# Altium footprint library transistor.PCBLIB: 58 footprints (part 2 of 4)
Each footprint in its own frame and in the unit in brackets; x right, y up, seen from the top. Pads: shape width x height; smd on the part's side, far side on the other; paste and mask are expansions set on the pad; w line width, h text height; cw(c..) or ccw(c..) is an arc to the next point about the centre after c.
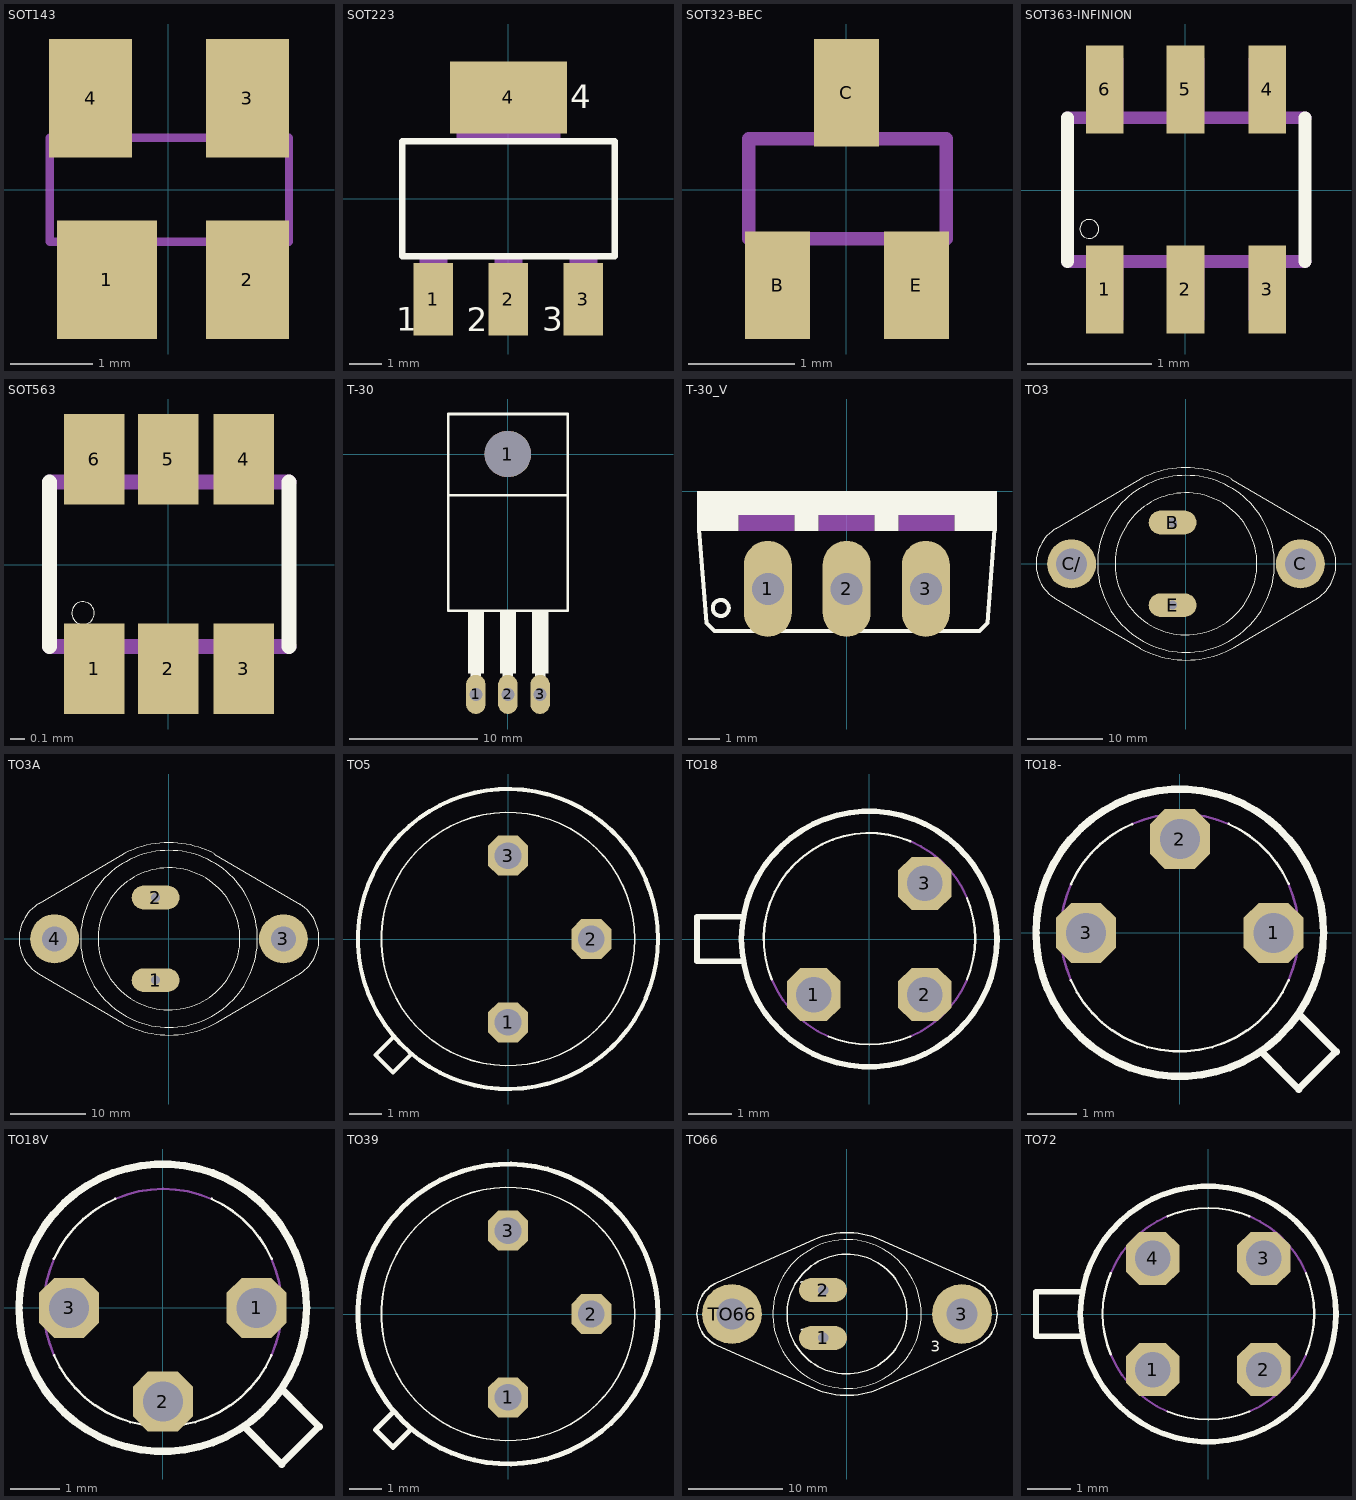
[diagram p1: the footprints below, top view; thin cyan lines are the x and y axes]

## SOT143 [mil]
pads (4):
  rect 48x57 smd: 1(-29.53,-43.31)
  rect 40x57 smd: 2(38,-43.31) 3(38,44) 4(-37.4,44)
Mechanical 16:
  rectangle: 29,-52 47,-25
  rectangle: 28,25 46,52
  rectangle: -45,25 -27,52
  rectangle: -47,-52 -12,-25
  lines w4: -57.01,-25 58,-25 58,25 -57.01,25 -57.01,-25

## SOT223 [mil]
pads (4):
  rect 48x88 smd: 1(-91,-122) 2(0,-122) 3(91,-122)
  rect 142x87 smd: 4(0,123)
Top Overlay:
  lines w8: -129,-70 129,-70 129,70 -129,70 -129,-70
  text "3" at 41,-170 h49.6
  text "4" at 75,100 h49.6
  text "1" at -135.93,-170 h49.6
  text "2" at -50.81,-170.37 h49.6
Mechanical 16:
  rectangle: -63,71 63,144
  rectangle: -17,-144 17,-71
  rectangle: -108,-144 -74,-71
  rectangle: 74,-144 108,-71
  rectangle: -63,71 63,144
  rectangle: -17,-144 17,-71
  rectangle: -108,-144 -74,-71
  rectangle: 74,-144 108,-71

## SOT323-BEC [mil]
pads (3):
  rect 24x40 smd: B(-25.59,-35.43) C(0,36) E(26,-35.43)
Mechanical 16:
  rectangle: -31.5,-43.31 -19.68,-19.68
  rectangle: 20,-43.31 32,-19.68
  rectangle: -5.91,20 6,44
  lines w5: -36.31,-18.13 37,-18.13 37,19 -36.31,19 -36.31,-18.13

## SOT363-INFINION [mil]
pads (6):
  rect 12x28 smd: 1(-25.59,-31.5) 2(0,-31.5) 3(26,-31.5) 4(26,32) 5(0,32) 6(-25.59,32)
Top Overlay:
  circle w0: c-30.51,-12.3 r3
  lines w4: -37.4,-22.64 -37.4,23 ; 38,-22.64 38,23
Top Paste:
  rectangle: -30.51,-44.29 -20.67,-18.7
  rectangle: -4.92,-44.29 5,-18.7
  rectangle: 21,-44.29 31,-18.7
  region: 31,45 21,45 21,19 31,19
  region: 5,45 -4.92,45 -4.92,19 5,19
  region: -20.67,45 -30.51,45 -30.51,19 -20.67,19
Top Solder:
  rectangle: -32.97,-47.24 -18.21,-16.24
  rectangle: -7.38,-47.24 8,-16.24
  rectangle: 19,-47.24 33,-16.24
  region: 33,48 19,48 19,17 33,17
  region: 8,48 -7.38,48 -7.38,17 8,17
  region: -18.21,48 -32.97,48 -32.97,17 -18.21,17
Mechanical 16:
  region: 6,-21.65 -5.91,-21.65 -5.91,-41.34 6,-41.34
  rectangle: -5.91,22 6,42
  rectangle: -31.5,22 -19.68,42
  rectangle: 20,22 32,42
  region: -19.69,-21.65 -31.5,-21.65 -31.5,-41.34 -19.69,-41.34
  region: 32,-21.65 20,-21.65 20,-41.34 32,-41.34
  lines w4: -37.4,-22.64 38,-22.64 ; -37.4,23 38,23

## SOT563 [mil]
pads (6):
  rect 16x24 smd: 1(-19.68,-27.56) 2(0,-27.56) 3(20,-27.56) 4(20,28) 5(0,28) 6(-19.68,28)
Top Overlay:
  circle w0: c-22.64,-12.8 r3
  lines w4: -31.5,-21.65 -31.5,22 ; 32,-21.65 32,22
Mechanical 16:
  region: -13.78,-21.65 -25.59,-21.65 -25.59,-33.46 -13.78,-33.46
  region: 6,-21.65 -5.91,-21.65 -5.91,-33.46 6,-33.46
  region: 26,-21.65 14,-21.65 14,-33.46 26,-33.46
  rectangle: 14,22 26,34
  rectangle: -5.91,22 6,34
  rectangle: -25.59,22 -13.78,34
  lines w4: -31.5,-21.65 32,-21.65 ; -31.5,22 32,22

## T-30 [mil]
pads (4):
  oval 60x120 hole 40: 1(-98.43,-737.6) 2(0,-737.6) 3(99,-737.6)
  round 142 hole 142: 1(0,0)
Top Overlay:
  rectangle: -123.03,-673.23 -73.82,-483.27
  rectangle: -24.61,-673.23 25,-483.27
  rectangle: 74,-673.23 124,-483.27
  lines w8: -183.07,-125.98 -183.07,-480.31 184,-480.31 184,-125.98 ; -183.07,-125.98 -183.07,123 184,123 184,-125.98 ; -183.07,-125.98 184,-125.98
  lines w32: -98.43,-737.4 -98.43,-665.55 ; 0,-737.4 0,-665.55 ; 99,-737.4 99,-665.55

## T-30_V [mil]
pads (3):
  oval 60x120 hole 40: 1(-98.43,-122.05) 2(0,-122.05) 3(99,-122.05)
Top Overlay:
  circle w5: c-157.31,-146 r10
  rectangle: -187.01,-30 188,0
  rectangle: -187.01,-50 -135,-30
  rectangle: -65,-50 -35,-30
  rectangle: 35,-50 65,-30
  rectangle: 135,-50 188,-30
  lines w5: -184.25,-47.95 -175.31,-164.92 -165.31,-174.92 166,-174.92 176,-164.92 185,-47.95
Mechanical 16:
  rectangle: -135,-50 -65,-30
  rectangle: -35,-50 35,-30
  rectangle: 65,-50 135,-30

## TO3 [mil]
pads (4):
  oval 248x124 hole 47: B(-70,215) E(-70,-215)
  round 255 hole 162: C(595,0) C/(-595,0)
Top Overlay:
  circle w6: c0,0 r369
  circle w2: c0,0 r460
  lines w6: -680,180 -250,433 ; -679,-181 -234,-442 ; -675.41,-183.35 cw(c-567,0) -780,0 cw(c-566.81,0.11) -672.94,185 ; -250.86,433 cw(c-0.9,0.24) 0,500 cw(c2,-1) 236,442 ; -235.3,-441.18 ccw(c0,0) 0,-500 ccw(c0.07,0.26) 251,-432.52 ; 235,441 684,178 ; 251,-433 684,-178 ; 683,-178.94 ccw(c567.23,-0.42) 780,0 ccw(c567.17,0.45) 683,179
Mechanical 16:
  circle w6: c595,0 r85
  circle w6: c-595,0 r85
  text "C" at 600,-195 h77.5
  text "E" at -150,-245 h77.5
  text "B" at -150,180 h77.5

## TO3A [mil]
pads (4):
  oval 248x124 hole 47: 1(-70,-215) 2(-70,215)
  round 255 hole 130: 3(595,0) 4(-595,0)
Top Overlay:
  circle w5: c0,0 r369
  circle w2: c0,0 r460
  lines w5: -680,180 -250,433 ; -679,-181 -234,-442 ; -675.41,-183.35 cw(c-567,0) -780,0 cw(c-566.81,0.11) -672.94,185 ; -250.86,433 cw(c-0.9,0.24) 0,500 cw(c2,-1) 236,442 ; -235.3,-441.18 ccw(c0,0) 0,-500 ccw(c0.07,0.26) 251,-432.52 ; 235,441 684,178 ; 251,-433 684,-178 ; 683,-178.94 ccw(c567.23,-0.42) 780,0 ccw(c567.17,0.45) 683,179
Mechanical 16:
  circle w5: c595,0 r85
  circle w5: c-595,0 r85
  text "3" at 600,-195 h77.5
  text "2" at -150,180 h77.5
  text "1" at -150,-245 h77.5
  text "4" at -550,-195 h77.5

## TO5 [mil]
pads (3):
  oct 48x48 hole 32: 1(0,-100) 2(100,0) 3(0,100)
Top Overlay:
  circle w5: c0,0 r180
  circle w2: c0,0 r152
  lines w5: -138,-118 -159,-139 -138,-160 -117,-139

## TO18 [mil]
pads (3):
  oct 48x48 hole 32: 1(-50,-50) 2(50,-50) 3(50,50)
Top Overlay:
  circle w5: c0,0 r115
  lines w2: -87.68,-36.57 cw(c0.28,0.07) 37,88 ; -36.57,-87.68 ccw(c0.21,0.51) 37,-87.68 ; 88,-36.57 ccw(c-0.19,0.21) 88,37
  lines w5: -113.25,-20 -155,-20 -155,20 -113.25,20
Mechanical 16:
  lines w2: -87.68,-36.57 ccw(c0,0) -36.57,-87.68 ; 37,-87.68 ccw(c0.38,-0.13) 88,-36.57 ; 37,88 cw(c0.51,0.51) 88,37
  text "1" at -75,-50 h77.5
  text "2" at 25,-50 h77.5
  text "3" at 0,25 h77.5

## TO18- [mil]
pads (3):
  oct 48x48 hole 32: 1(75,0) 2(0,75) 3(-75,0)
Top Overlay:
  circle w6: c0,0 r115
  lines w2: -87,-38.16 ccw(c0,0) 87,-38.16 ; -87,39 cw(c-1.08,0.42) -38.16,87 ; 39,87 cw(c1.5,1.5) 87,39
  lines w6: 65,-94.92 95,-125 125,-95 95,-64.92
Mechanical 16:
  lines w2: -87,-38.16 cw(c0.96,0.42) -87,39 ; -38.16,87 cw(c0.42,-0.96) 39,87 ; 87,-38.16 ccw(c-0.96,0.42) 87,39
  text "1" at 40,-45 h77.5
  text "2" at -20,25 h77.5
  text "3" at -75,-50 h77.5

## TO18V [mil]
pads (3):
  oct 48x48 hole 32: 1(75,0) 2(0,-75) 3(-75,0)
Top Overlay:
  circle w6: c0,0 r115
  lines w2: -87,-38.16 ccw(c0,0) 87,-38.16 ; -87,39 cw(c-1.07,0.42) -38.16,87 ; 39,87 cw(c1.49,1.49) 87,39
  lines w6: 65,-94.92 95,-125 125,-95 95,-64.92
Mechanical 16:
  lines w2: -87,-38.16 cw(c0.96,0.42) -87,39 ; -38.16,87 cw(c0.42,-0.96) 39,87 ; 87,-38.16 ccw(c-0.96,0.42) 87,39
  text "1" at 40,30 h77.5
  text "2" at -20,-50 h77.5
  text "3" at -75,25 h77.5

## TO39 [mil]
pads (3):
  oct 48x48 hole 32: 1(0,-100) 2(100,0) 3(0,100)
Top Overlay:
  circle w6: c0,0 r180
  circle w2: c0,0 r152
  lines w6: -138,-118 -159,-139 -138,-160 -117,-139

## TO66 [mil]
pads (4):
  oval 200x100 hole 44: 1(-100,-100) 2(-100,100)
  round 250 hole 130: 3(480,0) TO66(-480,0)
Top Overlay:
  circle w2: c0,0 r310
  circle w6: c0,0 r250
  lines w6: -539.8,-132.56 cw(c-480.92,0.22) -539.8,133 -137.83,311 cw(c0.08,0.02) 138,311 540,133 cw(c481.12,0.22) 540,-132.56 138,-310.83 cw(c0.08,0.16) -137.83,-310.83 -539.8,-132.56
  text "3" at 350,-175 h77.5
  text "2" at -200,75 h77.5
  text "1" at -200,-125 h77.5
Mechanical 16:
  circle w6: c-480,0 r75
  circle w6: c480,0 r75

## TO72 [mil]
pads (4):
  oct 48x48 hole 32: 1(-50,-50) 2(50,-50) 3(50,50) 4(-50,50)
Top Overlay:
  circle w5: c0,0 r115
  lines w2: -87.68,-36.57 cw(c0.51,0.21) -87.68,37 ; -36.57,-87.68 ccw(c0.21,0.51) 37,-87.68 ; -36.57,88 cw(c0.21,-0.19) 37,88 ; 88,-36.57 ccw(c-0.19,0.21) 88,37
  lines w5: -114,-20 -155,-20 -155,20 -114,20
Mechanical 16:
  lines w2: -87.68,-36.57 ccw(c0,0) -36.57,-87.68 ; -87.68,37 cw(c-0.13,0.38) -36.57,88 ; 37,-87.68 ccw(c0.38,-0.13) 88,-36.57 ; 37,88 cw(c0.51,0.51) 88,37
  text "1" at -65,-65 h77.5
  text "2" at 20,-65 h77.5
  text "3" at 20,15 h77.5
  text "4" at -65,15 h77.5